# EAGLE library part ICL7667CBA (library Intersil_By_element14_Batch_1)
Dual Power MOSFET Driver
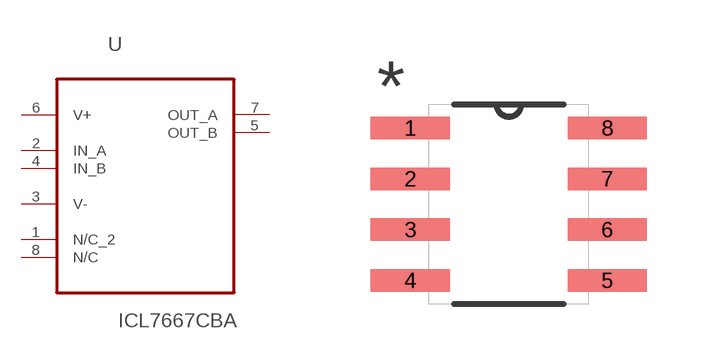
[diagram p197: symbol with the pads of SOIC127P600X175-8N; footprint SOIC127P600X175-8N]

Designator prefix U

## ICL7667CBA (MPN: ICL7667CBA; OC_FARNELL: 1651941; OC_NEWARK: 06F7469; PACKAGE: SOIC-8; SUPPLIER: INTERSIL)  [SOIC127P600X175-8N]
1  N/C_2  nc
2  IN_A  in
3  V-  pwr
4  IN_B  in
5  OUT_B  out
6  V+  pwr
7  OUT_A  out
8  N/C  nc

## Footprint SOIC127P600X175-8N (pad centres in mm)
smd 1.981 x 0.559: 1 -2.464,1.905; 2 -2.464,0.635; 3 -2.464,-0.635; 4 -2.464,-1.905; 5 2.464,-1.905; 6 2.464,-0.635; 7 2.464,0.635; 8 2.464,1.905